# EAGLE library part RP-M100A (library funkfinger)
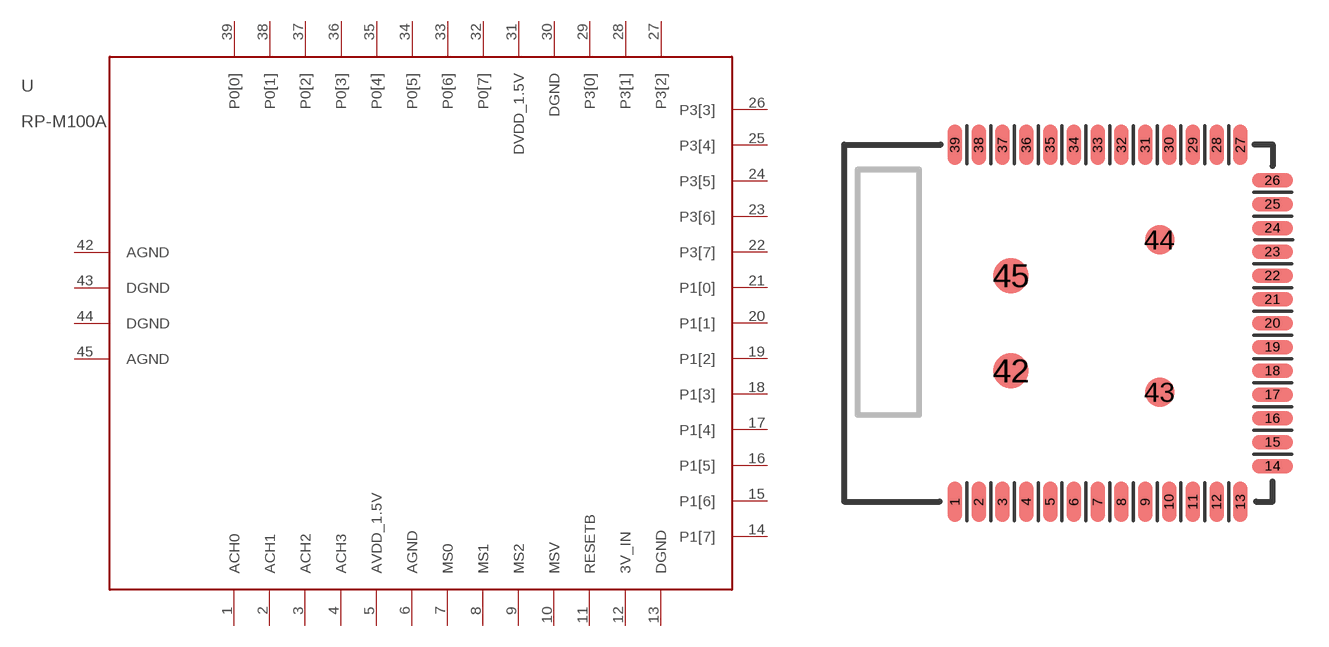
[diagram p8: symbol with the pads of RP-M100A; footprint RP-M100A]

Designator prefix -

## RP-M100A  [RP-M100A]
1  ACH0
2  ACH1
3  ACH2
4  ACH3
5  AVDD_1.5V  pwr
6  AGND  sup
7  MS0  in
8  MS1  in
9  MS2  in
10  MSV  in
11  RESETB  in
12  3V_IN  pwr
13  DGND  sup
14  P1[7]  out
15  P1[6]
16  P1[5]
17  P1[4]
18  P1[3]
19  P1[2]
20  P1[1]
21  P1[0]
22  P3[7]
23  P3[6]
24  P3[5]
25  P3[4]
26  P3[3]
27  P3[2]
28  P3[1]
29  P3[0]
30  DGND  sup
31  DVDD_1.5V  pwr
32  P0[7]
33  P0[6]
34  P0[5]
35  P0[4]
36  P0[3]
37  P0[2]
38  P0[1]
39  P0[0]
42  AGND  sup
43  DGND  sup
44  DGND  sup
45  AGND  sup

## Footprint RP-M100A (pad centres in mm)
smd 0.6 x 1.7: 1 -5.51,-7.62; 2 -4.51,-7.62; 3 -3.51,-7.62; 4 -2.51,-7.62; 5 -1.51,-7.62; 6 -0.51,-7.62; 7 0.49,-7.62; 8 1.49,-7.62; 9 2.49,-7.62; 10 3.49,-7.62; 11 4.49,-7.62; 12 5.49,-7.62; 13 6.49,-7.62; 27 6.49,7.38; 28 5.49,7.38; 29 4.49,7.38; 30 3.49,7.38; 31 2.49,7.38; 32 1.49,7.38; 33 0.49,7.38; 34 -0.51,7.38; 35 -1.51,7.38; 36 -2.51,7.38; 37 -3.51,7.38; 38 -4.51,7.38; 39 -5.51,7.38
smd 1.7 x 0.6: 14 7.84,-6.12; 15 7.84,-5.12; 16 7.84,-4.12; 17 7.84,-3.12; 18 7.84,-2.12; 19 7.84,-1.12; 20 7.84,-0.12; 21 7.84,0.88; 22 7.84,1.88; 23 7.84,2.88; 24 7.84,3.88; 25 7.84,4.88; 26 7.84,5.88
smd 1.5 x 1.5: 42 -3.16,-2.12; 45 -3.16,1.88
smd 1.25 x 1.25: 43 3.09,-3.02; 44 3.09,3.38